# EAGLE library part AD9361BBC-CSH (library My_Library)
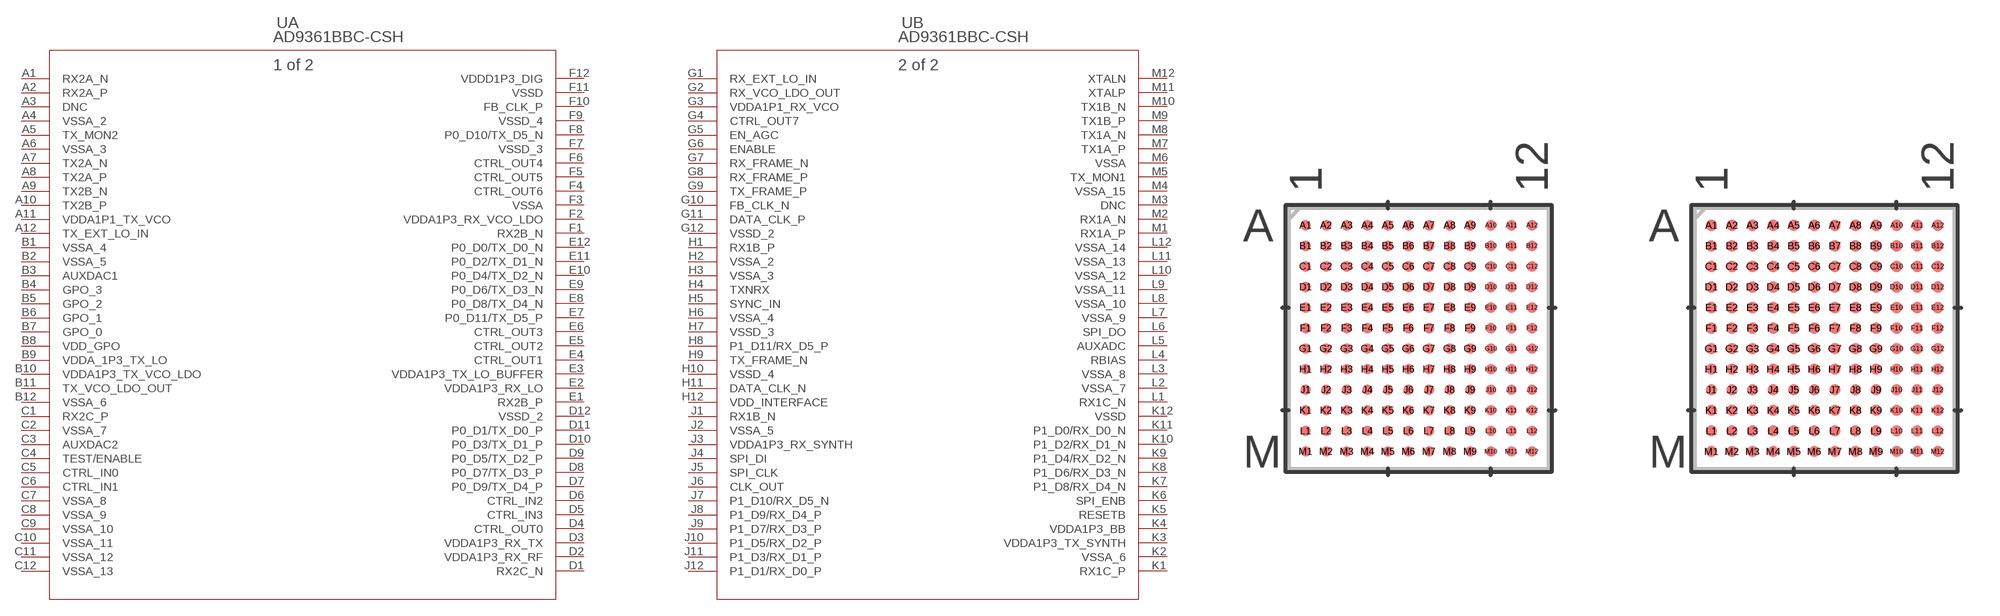
[diagram p0: symbol with the pads of BC-144-7_ADI; footprints BC-144-7_ADI, BC-144-7_ADI-M]

Designator prefix U; gates A=AD9361-CSH_A B=AD9361-CSH_B

## AD9361BBC-CSH (COPYRIGHT: Copyright (C) 2024 Ultra Librarian. All rights reserved.; MANUFACTURER_PART_NUMBER: AD9361BBC-CSH; MFR_NAME: Analog Devices Inc; TYPE: RF)  [BC-144-7_ADI]
A1  A:RX2A_N  in
A2  A:RX2A_P  in
A3  A:DNC  nc
A4  A:VSSA_2  pas
A5  A:TX_MON2  in
A6  A:VSSA_3  pas
A7  A:TX2A_N  out
A8  A:TX2A_P  out
A9  A:TX2B_N  out
A10  A:TX2B_P  out
A11  A:VDDA1P1_TX_VCO  pwr
A12  A:TX_EXT_LO_IN  in
B1  A:VSSA_4  pas
B2  A:VSSA_5  pas
B3  A:AUXDAC1  out
B4  A:GPO_3  out
B5  A:GPO_2  out
B6  A:GPO_1  out
B7  A:GPO_0  out
B8  A:VDD_GPO  pwr
B9  A:VDDA_1P3_TX_LO  pwr
B10  A:VDDA1P3_TX_VCO_LDO  pwr
B11  A:TX_VCO_LDO_OUT  out
B12  A:VSSA_6  pas
C1  A:RX2C_P  in
C2  A:VSSA_7  pas
C3  A:AUXDAC2  out
C4  A:TEST/ENABLE  pas
C5  A:CTRL_IN0  in
C6  A:CTRL_IN1  in
C7  A:VSSA_8  pas
C8  A:VSSA_9  pas
C9  A:VSSA_10  pas
C10  A:VSSA_11  pas
C11  A:VSSA_12  pas
C12  A:VSSA_13  pas
D1  A:RX2C_N  in
D2  A:VDDA1P3_RX_RF  pwr
D3  A:VDDA1P3_RX_TX  pwr
D4  A:CTRL_OUT0  out
D5  A:CTRL_IN3  in
D6  A:CTRL_IN2  in
D7  A:P0_D9/TX_D4_P
D8  A:P0_D7/TX_D3_P
D9  A:P0_D5/TX_D2_P
D10  A:P0_D3/TX_D1_P
D11  A:P0_D1/TX_D0_P
D12  A:VSSD_2  pas
E1  A:RX2B_P  in
E2  A:VDDA1P3_RX_LO  pwr
E3  A:VDDA1P3_TX_LO_BUFFER  pwr
E4  A:CTRL_OUT1  out
E5  A:CTRL_OUT2  out
E6  A:CTRL_OUT3  out
E7  A:P0_D11/TX_D5_P
E8  A:P0_D8/TX_D4_N
E9  A:P0_D6/TX_D3_N
E10  A:P0_D4/TX_D2_N
E11  A:P0_D2/TX_D1_N
E12  A:P0_D0/TX_D0_N
F1  A:RX2B_N  in
F2  A:VDDA1P3_RX_VCO_LDO  pwr
F3  A:VSSA  pas
F4  A:CTRL_OUT6  out
F5  A:CTRL_OUT5  out
F6  A:CTRL_OUT4  out
F7  A:VSSD_3  pas
F8  A:P0_D10/TX_D5_N
F9  A:VSSD_4  pas
F10  A:FB_CLK_P  in
F11  A:VSSD  pas
F12  A:VDDD1P3_DIG  pwr
G1  B:RX_EXT_LO_IN  pas
G2  B:RX_VCO_LDO_OUT  out
G3  B:VDDA1P1_RX_VCO  pwr
G4  B:CTRL_OUT7  out
G5  B:EN_AGC  in
G6  B:ENABLE  in
G7  B:RX_FRAME_N  pas
G8  B:RX_FRAME_P  pas
G9  B:TX_FRAME_P  pas
G10  B:FB_CLK_N  in
G11  B:DATA_CLK_P  pas
G12  B:VSSD_2  pas
H1  B:RX1B_P  in
H2  B:VSSA_2  pas
H3  B:VSSA_3  pas
H4  B:TXNRX  in
H5  B:SYNC_IN  in
H6  B:VSSA_4  pas
H7  B:VSSD_3  pas
H8  B:P1_D11/RX_D5_P
H9  B:TX_FRAME_N  pas
H10  B:VSSD_4  pas
H11  B:DATA_CLK_N  pas
H12  B:VDD_INTERFACE  pwr
J1  B:RX1B_N  in
J2  B:VSSA_5  pas
J3  B:VDDA1P3_RX_SYNTH  pwr
J4  B:SPI_DI  in
J5  B:SPI_CLK  in
J6  B:CLK_OUT  out
J7  B:P1_D10/RX_D5_N
J8  B:P1_D9/RX_D4_P
J9  B:P1_D7/RX_D3_P
J10  B:P1_D5/RX_D2_P
J11  B:P1_D3/RX_D1_P
J12  B:P1_D1/RX_D0_P
K1  B:RX1C_P  in
K2  B:VSSA_6  pas
K3  B:VDDA1P3_TX_SYNTH  pwr
K4  B:VDDA1P3_BB  pwr
K5  B:RESETB  in
K6  B:SPI_ENB  in
K7  B:P1_D8/RX_D4_N
K8  B:P1_D6/RX_D3_N
K9  B:P1_D4/RX_D2_N
K10  B:P1_D2/RX_D1_N
K11  B:P1_D0/RX_D0_N
K12  B:VSSD  pas
L1  B:RX1C_N  in
L2  B:VSSA_7  pas
L3  B:VSSA_8  pas
L4  B:RBIAS  pas
L5  B:AUXADC  in
L6  B:SPI_DO  out
L7  B:VSSA_9  pas
L8  B:VSSA_10  pas
L9  B:VSSA_11  pas
L10  B:VSSA_12  pas
L11  B:VSSA_13  pas
L12  B:VSSA_14  pas
M1  B:RX1A_P  in
M2  B:RX1A_N  in
M3  B:DNC  nc
M4  B:VSSA_15  pas
M5  B:TX_MON1  in
M6  B:VSSA  pas
M7  B:TX1A_P  out
M8  B:TX1A_N  out
M9  B:TX1B_P  out
M10  B:TX1B_N  out
M11  B:XTALP  in
M12  B:XTALN  in

## AD9361BBC-CSHBC-144-7_ADI-M (COPYRIGHT: Copyright (C) 2024 Ultra Librarian. All rights reserved.; MANUFACTURER_PART_NUMBER: AD9361BBC-CSH; MFR_NAME: Analog Devices Inc; TYPE: RF)  [BC-144-7_ADI-M]
Pads as for BC-144-7_ADI

## AD9361BBC-CSHBC-144-7_ADI-L (COPYRIGHT: Copyright (C) 2024 Ultra Librarian. All rights reserved.; MANUFACTURER_PART_NUMBER: AD9361BBC-CSH; MFR_NAME: Analog Devices Inc; TYPE: RF)  [BC-144-7_ADI-L]
Pads as for BC-144-7_ADI

## Footprint BC-144-7_ADI (pad centres in mm)
smd 0.406 x 0.406: A1 -4.4,4.4; A2 -3.6,4.4; A3 -2.8,4.4; A4 -2,4.4; A5 -1.2,4.4; A6 -0.4,4.4; A7 0.4,4.4; A8 1.2,4.4; A9 2,4.4; A10 2.8,4.4; A11 3.6,4.4; A12 4.4,4.4; B1 -4.4,3.6; B2 -3.6,3.6; B3 -2.8,3.6; B4 -2,3.6; B5 -1.2,3.6; B6 -0.4,3.6; B7 0.4,3.6; B8 1.2,3.6; B9 2,3.6; B10 2.8,3.6; B11 3.6,3.6; B12 4.4,3.6; C1 -4.4,2.8; C2 -3.6,2.8; C3 -2.8,2.8; C4 -2,2.8; C5 -1.2,2.8; C6 -0.4,2.8; C7 0.4,2.8; C8 1.2,2.8; C9 2,2.8; C10 2.8,2.8; C11 3.6,2.8; C12 4.4,2.8; D1 -4.4,2; D2 -3.6,2; D3 -2.8,2; D4 -2,2; D5 -1.2,2; D6 -0.4,2; D7 0.4,2; D8 1.2,2; D9 2,2; D10 2.8,2; D11 3.6,2; D12 4.4,2; E1 -4.4,1.2; E2 -3.6,1.2; E3 -2.8,1.2; E4 -2,1.2; E5 -1.2,1.2; E6 -0.4,1.2; E7 0.4,1.2; E8 1.2,1.2; E9 2,1.2; E10 2.8,1.2; E11 3.6,1.2; E12 4.4,1.2; F1 -4.4,0.4; F2 -3.6,0.4; F3 -2.8,0.4; F4 -2,0.4; F5 -1.2,0.4; F6 -0.4,0.4; F7 0.4,0.4; F8 1.2,0.4; F9 2,0.4; F10 2.8,0.4; F11 3.6,0.4; F12 4.4,0.4; G1 -4.4,-0.4; G2 -3.6,-0.4; G3 -2.8,-0.4; G4 -2,-0.4; G5 -1.2,-0.4; G6 -0.4,-0.4; G7 0.4,-0.4; G8 1.2,-0.4; G9 2,-0.4; G10 2.8,-0.4; G11 3.6,-0.4; G12 4.4,-0.4; H1 -4.4,-1.2; H2 -3.6,-1.2; H3 -2.8,-1.2; H4 -2,-1.2; H5 -1.2,-1.2; H6 -0.4,-1.2; H7 0.4,-1.2; H8 1.2,-1.2; H9 2,-1.2; H10 2.8,-1.2; H11 3.6,-1.2; H12 4.4,-1.2; J1 -4.4,-2; J2 -3.6,-2; J3 -2.8,-2; J4 -2,-2; J5 -1.2,-2; J6 -0.4,-2; J7 0.4,-2; J8 1.2,-2; J9 2,-2; J10 2.8,-2; J11 3.6,-2; J12 4.4,-2; K1 -4.4,-2.8; K2 -3.6,-2.8; K3 -2.8,-2.8; K4 -2,-2.8; K5 -1.2,-2.8; K6 -0.4,-2.8; K7 0.4,-2.8; K8 1.2,-2.8; K9 2,-2.8; K10 2.8,-2.8; K11 3.6,-2.8; K12 4.4,-2.8; L1 -4.4,-3.6; L2 -3.6,-3.6; L3 -2.8,-3.6; L4 -2,-3.6; L5 -1.2,-3.6; L6 -0.4,-3.6; L7 0.4,-3.6; L8 1.2,-3.6; L9 2,-3.6; L10 2.8,-3.6; L11 3.6,-3.6; L12 4.4,-3.6; M1 -4.4,-4.4; M2 -3.6,-4.4; M3 -2.8,-4.4; M4 -2,-4.4; M5 -1.2,-4.4; M6 -0.4,-4.4; M7 0.4,-4.4; M8 1.2,-4.4; M9 2,-4.4; M10 2.8,-4.4; M11 3.6,-4.4; M12 4.4,-4.4

## Footprint BC-144-7_ADI-M (pad centres in mm)
smd 0.432 x 0.432: A1 -4.4,4.4; A2 -3.6,4.4; A3 -2.8,4.4; A4 -2,4.4; A5 -1.2,4.4; A6 -0.4,4.4; A7 0.4,4.4; A8 1.2,4.4; A9 2,4.4; A10 2.8,4.4; A11 3.6,4.4; A12 4.4,4.4; B1 -4.4,3.6; B2 -3.6,3.6; B3 -2.8,3.6; B4 -2,3.6; B5 -1.2,3.6; B6 -0.4,3.6; B7 0.4,3.6; B8 1.2,3.6; B9 2,3.6; B10 2.8,3.6; B11 3.6,3.6; B12 4.4,3.6; C1 -4.4,2.8; C2 -3.6,2.8; C3 -2.8,2.8; C4 -2,2.8; C5 -1.2,2.8; C6 -0.4,2.8; C7 0.4,2.8; C8 1.2,2.8; C9 2,2.8; C10 2.8,2.8; C11 3.6,2.8; C12 4.4,2.8; D1 -4.4,2; D2 -3.6,2; D3 -2.8,2; D4 -2,2; D5 -1.2,2; D6 -0.4,2; D7 0.4,2; D8 1.2,2; D9 2,2; D10 2.8,2; D11 3.6,2; D12 4.4,2; E1 -4.4,1.2; E2 -3.6,1.2; E3 -2.8,1.2; E4 -2,1.2; E5 -1.2,1.2; E6 -0.4,1.2; E7 0.4,1.2; E8 1.2,1.2; E9 2,1.2; E10 2.8,1.2; E11 3.6,1.2; E12 4.4,1.2; F1 -4.4,0.4; F2 -3.6,0.4; F3 -2.8,0.4; F4 -2,0.4; F5 -1.2,0.4; F6 -0.4,0.4; F7 0.4,0.4; F8 1.2,0.4; F9 2,0.4; F10 2.8,0.4; F11 3.6,0.4; F12 4.4,0.4; G1 -4.4,-0.4; G2 -3.6,-0.4; G3 -2.8,-0.4; G4 -2,-0.4; G5 -1.2,-0.4; G6 -0.4,-0.4; G7 0.4,-0.4; G8 1.2,-0.4; G9 2,-0.4; G10 2.8,-0.4; G11 3.6,-0.4; G12 4.4,-0.4; H1 -4.4,-1.2; H2 -3.6,-1.2; H3 -2.8,-1.2; H4 -2,-1.2; H5 -1.2,-1.2; H6 -0.4,-1.2; H7 0.4,-1.2; H8 1.2,-1.2; H9 2,-1.2; H10 2.8,-1.2; H11 3.6,-1.2; H12 4.4,-1.2; J1 -4.4,-2; J2 -3.6,-2; J3 -2.8,-2; J4 -2,-2; J5 -1.2,-2; J6 -0.4,-2; J7 0.4,-2; J8 1.2,-2; J9 2,-2; J10 2.8,-2; J11 3.6,-2; J12 4.4,-2; K1 -4.4,-2.8; K2 -3.6,-2.8; K3 -2.8,-2.8; K4 -2,-2.8; K5 -1.2,-2.8; K6 -0.4,-2.8; K7 0.4,-2.8; K8 1.2,-2.8; K9 2,-2.8; K10 2.8,-2.8; K11 3.6,-2.8; K12 4.4,-2.8; L1 -4.4,-3.6; L2 -3.6,-3.6; L3 -2.8,-3.6; L4 -2,-3.6; L5 -1.2,-3.6; L6 -0.4,-3.6; L7 0.4,-3.6; L8 1.2,-3.6; L9 2,-3.6; L10 2.8,-3.6; L11 3.6,-3.6; L12 4.4,-3.6; M1 -4.4,-4.4; M2 -3.6,-4.4; M3 -2.8,-4.4; M4 -2,-4.4; M5 -1.2,-4.4; M6 -0.4,-4.4; M7 0.4,-4.4; M8 1.2,-4.4; M9 2,-4.4; M10 2.8,-4.4; M11 3.6,-4.4; M12 4.4,-4.4

## Footprint BC-144-7_ADI-L (pad centres in mm)
smd 0.381 x 0.381: A1 -4.4,4.4; A2 -3.6,4.4; A3 -2.8,4.4; A4 -2,4.4; A5 -1.2,4.4; A6 -0.4,4.4; A7 0.4,4.4; A8 1.2,4.4; A9 2,4.4; A10 2.8,4.4; A11 3.6,4.4; A12 4.4,4.4; B1 -4.4,3.6; B2 -3.6,3.6; B3 -2.8,3.6; B4 -2,3.6; B5 -1.2,3.6; B6 -0.4,3.6; B7 0.4,3.6; B8 1.2,3.6; B9 2,3.6; B10 2.8,3.6; B11 3.6,3.6; B12 4.4,3.6; C1 -4.4,2.8; C2 -3.6,2.8; C3 -2.8,2.8; C4 -2,2.8; C5 -1.2,2.8; C6 -0.4,2.8; C7 0.4,2.8; C8 1.2,2.8; C9 2,2.8; C10 2.8,2.8; C11 3.6,2.8; C12 4.4,2.8; D1 -4.4,2; D2 -3.6,2; D3 -2.8,2; D4 -2,2; D5 -1.2,2; D6 -0.4,2; D7 0.4,2; D8 1.2,2; D9 2,2; D10 2.8,2; D11 3.6,2; D12 4.4,2; E1 -4.4,1.2; E2 -3.6,1.2; E3 -2.8,1.2; E4 -2,1.2; E5 -1.2,1.2; E6 -0.4,1.2; E7 0.4,1.2; E8 1.2,1.2; E9 2,1.2; E10 2.8,1.2; E11 3.6,1.2; E12 4.4,1.2; F1 -4.4,0.4; F2 -3.6,0.4; F3 -2.8,0.4; F4 -2,0.4; F5 -1.2,0.4; F6 -0.4,0.4; F7 0.4,0.4; F8 1.2,0.4; F9 2,0.4; F10 2.8,0.4; F11 3.6,0.4; F12 4.4,0.4; G1 -4.4,-0.4; G2 -3.6,-0.4; G3 -2.8,-0.4; G4 -2,-0.4; G5 -1.2,-0.4; G6 -0.4,-0.4; G7 0.4,-0.4; G8 1.2,-0.4; G9 2,-0.4; G10 2.8,-0.4; G11 3.6,-0.4; G12 4.4,-0.4; H1 -4.4,-1.2; H2 -3.6,-1.2; H3 -2.8,-1.2; H4 -2,-1.2; H5 -1.2,-1.2; H6 -0.4,-1.2; H7 0.4,-1.2; H8 1.2,-1.2; H9 2,-1.2; H10 2.8,-1.2; H11 3.6,-1.2; H12 4.4,-1.2; J1 -4.4,-2; J2 -3.6,-2; J3 -2.8,-2; J4 -2,-2; J5 -1.2,-2; J6 -0.4,-2; J7 0.4,-2; J8 1.2,-2; J9 2,-2; J10 2.8,-2; J11 3.6,-2; J12 4.4,-2; K1 -4.4,-2.8; K2 -3.6,-2.8; K3 -2.8,-2.8; K4 -2,-2.8; K5 -1.2,-2.8; K6 -0.4,-2.8; K7 0.4,-2.8; K8 1.2,-2.8; K9 2,-2.8; K10 2.8,-2.8; K11 3.6,-2.8; K12 4.4,-2.8; L1 -4.4,-3.6; L2 -3.6,-3.6; L3 -2.8,-3.6; L4 -2,-3.6; L5 -1.2,-3.6; L6 -0.4,-3.6; L7 0.4,-3.6; L8 1.2,-3.6; L9 2,-3.6; L10 2.8,-3.6; L11 3.6,-3.6; L12 4.4,-3.6; M1 -4.4,-4.4; M2 -3.6,-4.4; M3 -2.8,-4.4; M4 -2,-4.4; M5 -1.2,-4.4; M6 -0.4,-4.4; M7 0.4,-4.4; M8 1.2,-4.4; M9 2,-4.4; M10 2.8,-4.4; M11 3.6,-4.4; M12 4.4,-4.4